# Altium footprint library MAU-300.PcbLib: 1 footprints
Each footprint in its own frame and in the unit in brackets; x right, y up, seen from the top. Pads: shape width x height; smd on the part's side, far side on the other; paste and mask are expansions set on the pad; w line width, h text height; cw(c..) or ccw(c..) is an arc to the next point about the centre after c.
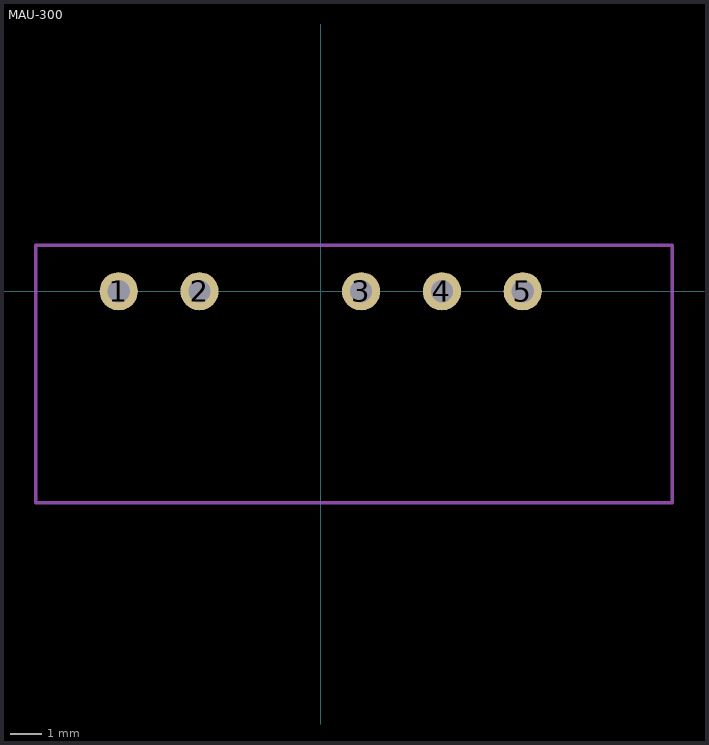
[diagram p0: the footprint, top view; thin cyan lines are the x and y axes]

## MAU-300 [mm]
pads (5):
  round 1.2 hole 0.7: 1(-6.35,0) 2(-3.81,0) 3(1.27,0) 4(3.81,0) 5(6.35,0)
Top Courtyard:
  lines w0.1: -8.957,-6.65 -8.957,1.45 11.05,1.45 11.05,-6.65 -8.957,-6.65
3D body "User Library-MAU302.STEP": height 9.75, standoff -3.45, extent -8.707,-6.398 10.793,1.202